# EAGLE library part TUSB1106 (library TUSB1106)
TUSB1106 Advance universal serial bus transceiver
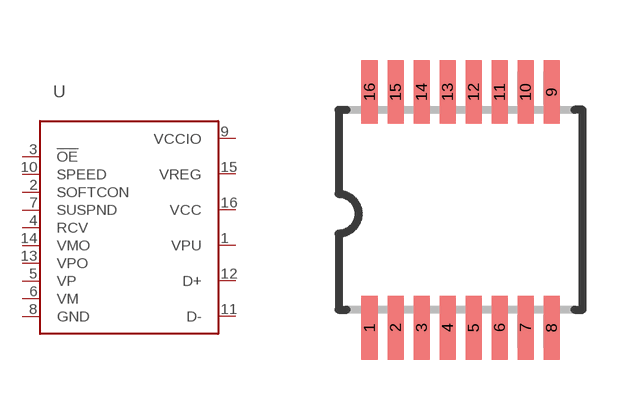
[diagram p0: symbol with the pads of USB_TRANCEIVER; footprint USB_TRANCEIVER]

Designator prefix U

## TUSB1106TSSOP  [USB_TRANCEIVER]
1  VPU
2  SOFTCON  nc
3  !OE  in
4  RCV  out
5  VP  out
6  VM  out
7  SUSPND  in
8  GND  pwr
9  VCCIO  pwr
10  SPEED  in
11  D-
12  D+
13  VPO  in
14  VMO  in
15  VREG  pwr
16  VCC  pwr

## Footprint USB_TRANCEIVER (pad centres in mm)
smd 0.4 x 1.6: 1 -2.225,-2.85; 2 -1.575,-2.85; 3 -0.925,-2.85; 4 -0.275,-2.85; 5 0.375,-2.85; 6 1.025,-2.85; 7 1.675,-2.85; 8 2.325,-2.85; 9 2.325,3.05; 10 1.675,3.05; 11 1.025,3.05; 12 0.375,3.05; 13 -0.275,3.05; 14 -0.925,3.05; 15 -1.575,3.05; 16 -2.225,3.05